# Altium integrated library CD4007UBE.IntLib: 1 symbol
Pins are listed as number, name and electrical type; pins without a type are passive.

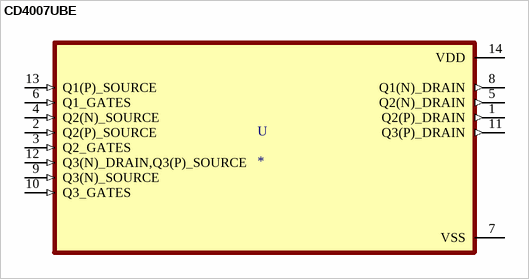
[diagram p0: symbol CD4007UBE]

## CD4007UBE
designator U
CMOS dual complementary pair plus inverter 14-PDIP -55 to 125; MF: Texas Instruments; MP: CD4007UBE; Value: *; Availability: Unavailable; Price: None; Package: PDIP-14 Texas Instruments; Texas_Instruments-Purchase-URL: https://snapeda.com/shop?store=Texas+Instruments&id=2816072; SnapEDA_Link: https://www.snapeda.com/parts/CD4007UBE/Texas%20Instruments/view-part/2816072/?ref=snap
footprint DIP794W45P254L1969H508Q14
pins: 1 Q2(P)_DRAIN (out), 2 Q2(P)_SOURCE (in), 3 Q2_GATES (in), 4 Q2(N)_SOURCE (in), 5 Q2(N)_DRAIN (out), 6 Q1_GATES (in), 7 VSS (power), 8 Q1(N)_DRAIN (out), 9 Q3(N)_SOURCE (in), 10 Q3_GATES (in), 11 Q3(P)_DRAIN (out), 12 Q3(N)_DRAIN,Q3(P)_SOURCE (in), 13 Q1(P)_SOURCE (in), 14 VDD (power)